# EAGLE library part MC78L05ACDX (library Fairchild_By_element14_Batch_1)
Positive Voltage Regulator
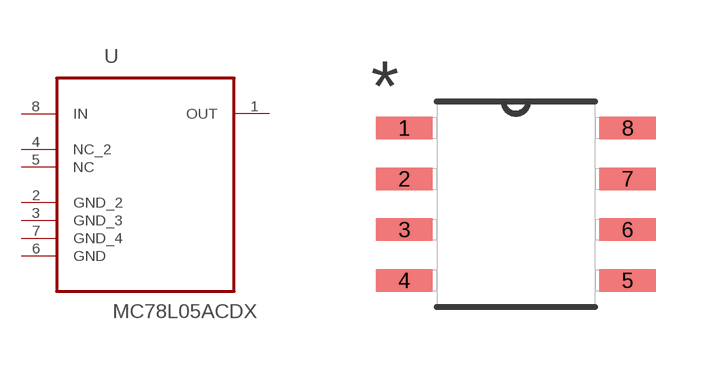
[diagram p223: symbol with the pads of SOIC127P600X180-8N; footprint SOIC127P600X180-8N]

Designator prefix U

## MC78L05ACDX (MPN: MC78L05ACDX; OC_FARNELL: -; OC_NEWARK: 38C7375; PACKAGE: SOIC-8; SUPPLIER: Fairchild Semiconductor)  [SOIC127P600X180-8N]
1  OUT  out
2  GND_2  pas
3  GND_3  pas
4  NC_2  nc
5  NC  nc
6  GND  pas
7  GND_4  pas
8  IN  pwr

## Footprint SOIC127P600X180-8N (pad centres in mm)
smd 1.422 x 0.559: 1 -2.794,1.905; 2 -2.794,0.635; 3 -2.794,-0.635; 4 -2.794,-1.905; 5 2.794,-1.905; 6 2.794,-0.635; 7 2.794,0.635; 8 2.794,1.905